# Altium schematic symbol library BUTTON_SW.SchLib: 1 symbol
Pins are listed as number, name and electrical type; pins without a type are passive.

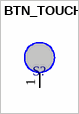
[diagram p0: symbol BTN_TOUCH]

## BTN_TOUCH
designator S?  (value not drawn)
pins: 1